# Altium footprint library epf.PcbLib: 52 footprints (part 1 of 4)
Each footprint in its own frame and in the unit in brackets; x right, y up, seen from the top. Pads: shape width x height; smd on the part's side, far side on the other; paste and mask are expansions set on the pad; w line width, h text height; cw(c..) or ccw(c..) is an arc to the next point about the centre after c.
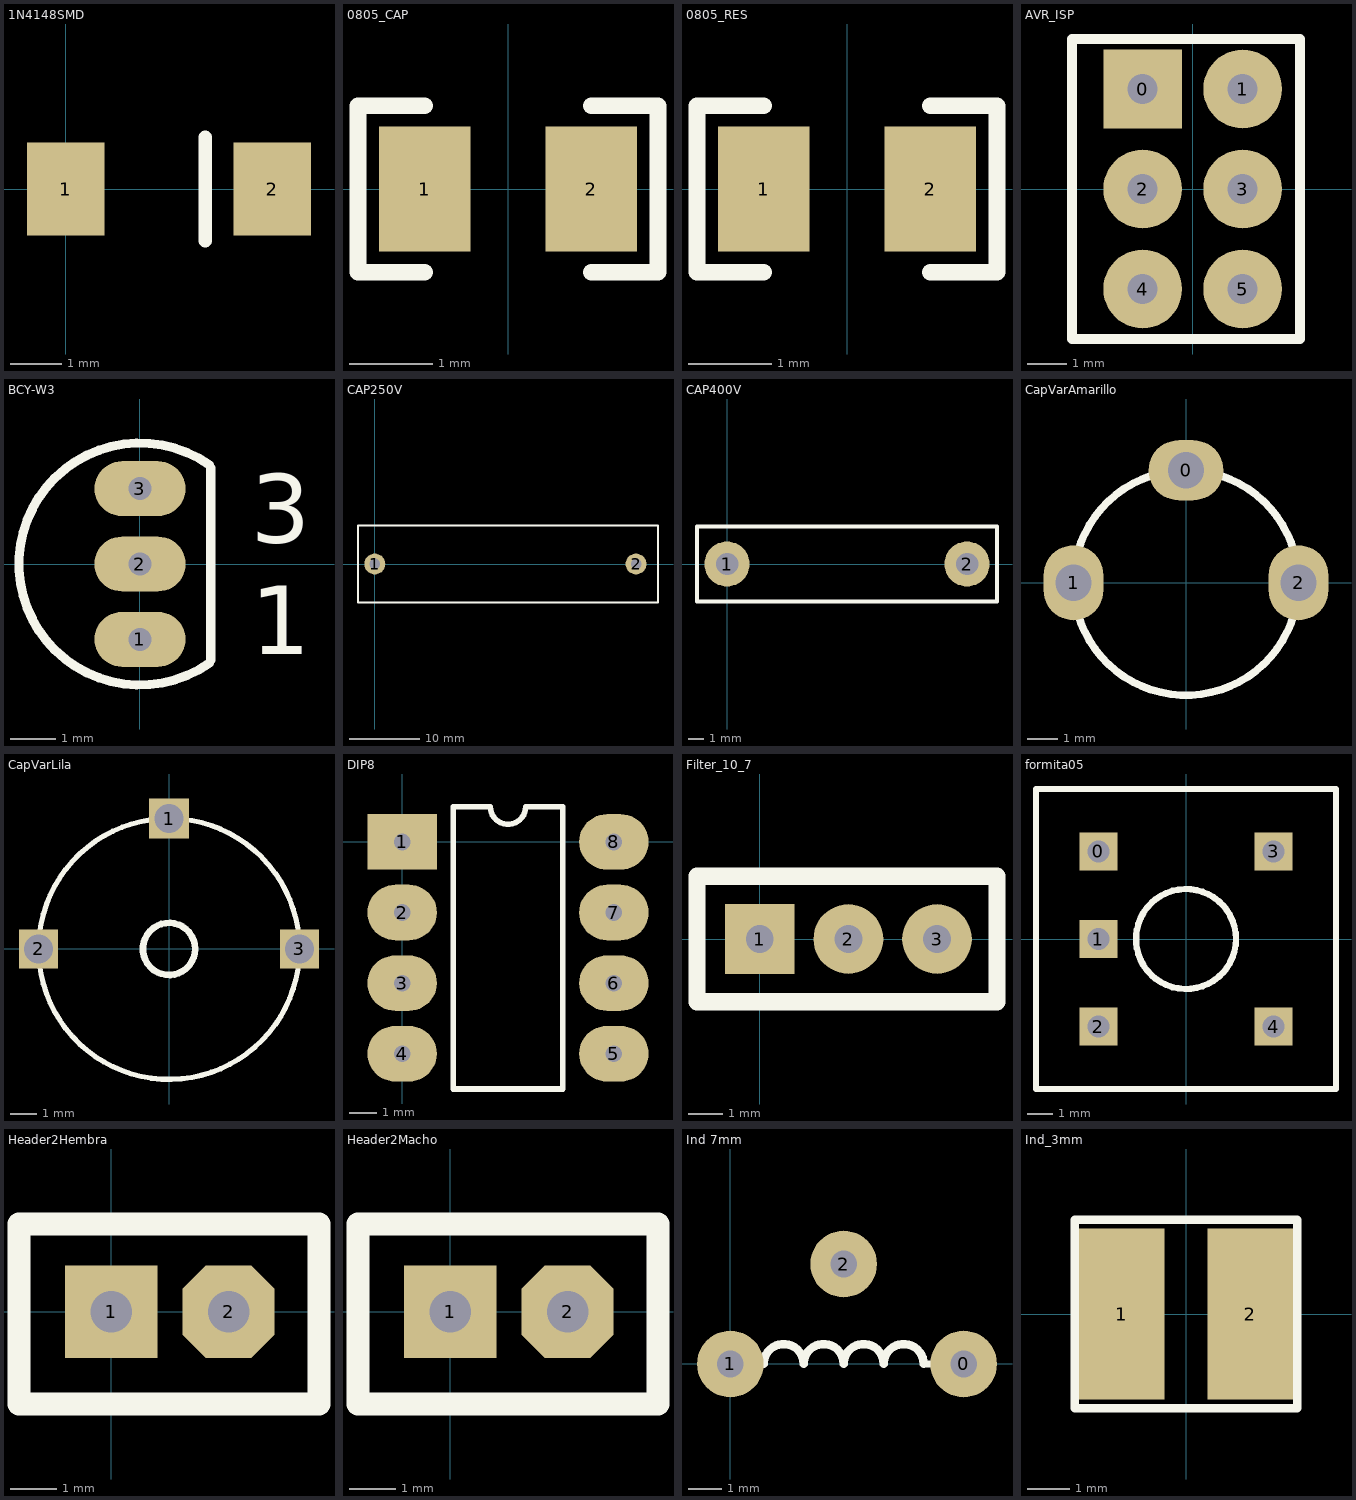
[diagram p0: the footprints below, top view; thin cyan lines are the x and y axes]

## 1N4148SMD [mm]
pads (2):
  rect 1.5x1.8 smd: 1(0,0) 2(4,0)
Top Overlay:
  lines w0.254: 2.7,-1 2.7,1

## 0805_CAP [mm]
pads (2):
  rect 1.1x1.5 smd: 1(-1,0) 2(1,0)
Top Overlay:
  lines w0.2: -1,-1 -1.8,-1 -1.8,1 -1,1 ; 1,-1 1.8,-1 1.8,1 1,1
3D body: height 0.78, standoff 0, extent -1,-0.625 1,0.625

## 0805_RES [mm]
pads (2):
  rect 1.1x1.5 smd: 1(-1,0) 2(1,0)
Top Overlay:
  lines w0.2: -1,-1 -1.8,-1 -1.8,1 -1,1 ; 1,-1 1.8,-1 1.8,1 1,1
3D body: height 0.78, standoff 0, extent -1,-0.625 1,0.625

## AVR_ISP [mm]
pads (6):
  rect 2x2 hole 0.762: 0(-1.27,2.54)
  round 2 hole 0.762: 1(1.27,2.54) 2(-1.27,0) 3(1.27,0) 4(-1.27,-2.54) 5(1.27,-2.54)
Top Overlay:
  lines w0.254: -0.635,3.81 2.73,3.81 2.73,-3.81 -3.07,-3.81 -3.07,3.81 0.635,3.81
3D body: height 8.2, standoff -3, extent 0.97,2.24 1.568,2.839
3D body: height 8.2, standoff -3, extent 0.97,-0.3 1.568,0.299
3D body: height 8.2, standoff -3, extent 0.97,-2.84 1.568,-2.241
3D body: height 8.2, standoff -3, extent -1.528,-2.84 -0.93,-2.241
3D body: height 8.2, standoff -3, extent -1.528,-0.3 -0.93,0.299
3D body: height 8.2, standoff -3, extent -1.528,2.24 -0.93,2.839
3D body: height 2.5, standoff 0, extent 0.02,1.29 2.52,3.79
3D body: height 2.5, standoff 0, extent 0.02,-1.25 2.52,1.25
3D body: height 2.5, standoff 0, extent 0.02,-3.79 2.52,-1.29
3D body: height 2.5, standoff 0, extent -2.48,-3.79 0.02,-1.29
3D body: height 2.5, standoff 0, extent -2.48,-1.25 0.02,1.25
3D body: height 2.5, standoff 0, extent -2.48,1.29 0.02,3.79

## BCY-W3 [mm] "TO, Flat Index; 3 In-Line, Axial Leads; Body Dia. 4.8mm; Leads 0.55 x 0.51 mm (max)"
height 5.33
pads (3):
  oval 2x1.2 hole 0.5: 1(0,-1.651) 2(0,0) 3(0,1.651)
Top Overlay:
  lines w0.2: 1.52,-2.171 cw(c0,0) 1.52,2.171 ; 1.55,-2.1 1.55,2.1
  text "1" at 2.421,-1.979 h1.5
  text "3" at 2.421,0.467 h1.5

## CAP250V [mm]
pads (2):
  round 3 hole 1.5: 1(0,0) 2(37.265,0)
Top Overlay:
  lines w0.254: -2.4,-5.5 -2.4,5.5 40.4,5.5 40.4,-5.5 -2.4,-5.5

## CAP400V [mm]
pads (2):
  round 3 hole 1.5: 1(0,0) 2(16,0)
Top Overlay:
  lines w0.254: -2,-2.5 18,-2.5 18,2.5 -2,2.5 -2,-2.5

## CapVarAmarillo [mm] "Amarillo"
height 10
pads (3):
  oval 2.5x2 hole 1.2: 0(0,3.75)
  oval 2x2.5 hole 1.2: 1(-3.75,0) 2(3.75,0)
Top Overlay:
  circle w0.254: c0,0 r3.75

## CapVarLila [mm] "50-100pf"
pads (3):
  rect 1.524x1.524 hole 1.1: 1(0,5)
  rect 1.5x1.5 hole 1.1: 2(-5,0) 3(5,0)
Top Overlay:
  circle w0.2: c0,0 r5
  circle w0.254: c0,0 r1

## DIP8 [mm]
pads (8):
  rect 2.5x2 hole 0.6: 1(0,0)
  oval 2.5x2 hole 0.6: 2(0,-2.54) 3(0,-5.08) 4(0,-7.62) 5(7.62,-7.62) 6(7.62,-5.08) 7(7.62,-2.54) 8(7.62,0)
Top Overlay:
  lines w0.2: 1.835,-8.89 1.835,1.27 3.175,1.27 ccw(c3.81,1.27) 4.445,1.27 5.785,1.27 5.785,-8.89 1.835,-8.89
3D body: height 4.19, standoff -2.67, extent -0.127,-9.525 7.747,1.905

## Filter_10_7 [mm]
pads (3):
  rect 2x2 hole 0.8: 1(0,0)
  round 2 hole 0.8: 2(2.54,0) 3(5.08,0)
Top Overlay:
  lines w0.5: -1.8,-1.8 -1.8,1.8 6.8,1.8 6.8,-1.8 -1.8,-1.8

## formita05 [mil] "Forma Bobina d=0.5cm"
height 590.55
pads (5):
  rect 60x60 hole 35: 0(-137.8,137.8) 1(-137.8,0) 2(-137.8,-137.8) 3(137.8,137.8) 4(137.8,-137.8)
Top Overlay:
  circle w10: c0,0 r78.74
  lines w10: -236.22,-236.22 -236.22,236.22 236.22,236.22 236.22,-236.22 -236.22,-236.22

## Header2Hembra [mm]
pads (2):
  rect 2x2 hole 0.9: 1(0,0)
  oct 2x2 hole 0.9: 2(2.54,0)
Top Overlay:
  lines w0.5: -2,-2 -2,0 -2,1.9 4,1.9 4.5,1.9 4.5,-2 -2,-2
3D body: height 6.02, standoff -3.1, extent -1.3,-1.3 3.78,1.24

## Header2Macho [mm]
pads (2):
  rect 2x2 hole 0.9: 1(0,0)
  oct 2x2 hole 0.9: 2(2.54,0)
Top Overlay:
  lines w0.5: -2,-2 4.5,-2 4.5,1.9 4,1.9 -2,1.9 -2,0 -2,-2
3D body: height 2.5, standoff 0, extent -1.18,-1.21 1.32,1.29
3D body: height 2.5, standoff 0, extent 1.32,-1.21 3.82,1.29
3D body: height 8.2, standoff -3, extent -0.228,-0.26 0.37,0.339
3D body: height 8.2, standoff -3, extent 2.27,-0.26 2.868,0.339

## Ind 7mm [mm]
pads (3):
  round 2 hole 0.8: 0(7,0) 1(0,0) 2(3.4,3)
Top Overlay:
  lines w0.2: 0,0 1,0 ; 5.8,0 7,0
  lines w0.254: 1,0 cw(c1.6,0) 2.2,0 cw(c2.8,0) 3.4,0 cw(c4,0) 4.6,0 cw(c5.2,0) 5.8,0

## Ind_3mm [mm]
pads (2):
  rect 2x4 smd: 1(-1.5,0) 2(1.5,0)
Top Overlay:
  lines w0.2: -2.6,-2.2 2.6,-2.2 2.6,2.2 -2.6,2.2 -2.6,0.9 -2.6,-2.2